# Altium schematic symbol library Mechanical.SchLib: 50 symbols
Pins are listed as number, name and electrical type; pins without a type are passive.

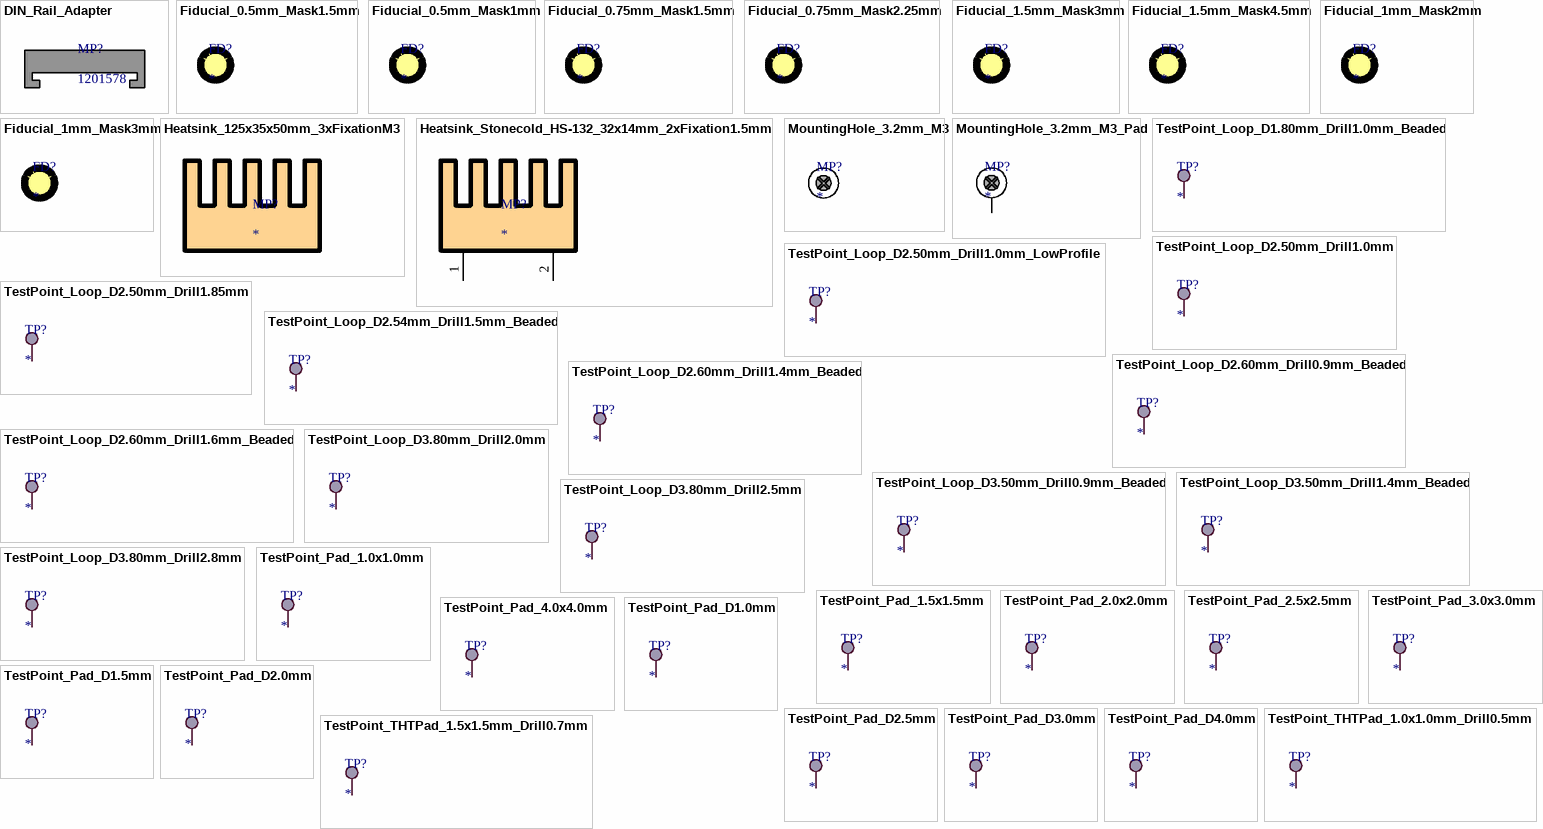
[diagram p0: symbols DIN_Rail_Adapter to TestPoint_THTPad_1.5x1.5mm_Drill0.7mm]

## DIN_Rail_Adapter
designator MP?, comment 1201578
Rail adapters, for M3 screws, length: 42.6 mm, width: 10 mm, height: 19 mm, color: gray; Manufacturer 1: Phoenix Contact; Category 1: Terminal Blocks; Supplier 1: Arrow Electronics; Supplier Part Number 1: 1201578; Manufacturer Part Number 1: 1201578; RoHS 1: Yes; Description 1: Rail adapters, for M3 screws, length: 42.6 mm, width: 10 mm, height: 19 mm, color: gray; Stock 1: 11; Pricing 1: 1=1.69280, 10=1.57760, 50=1.47590, 100=1.32930, 250=1.23700, 500=1.16160, 1000=1.08610 (USD); Material: Polyamide,PA; Color: Grey; Weight: 0.103705oz; Package Quantity: 10; Packaging: Bulk; Series: CLIPLINE; Length: 42.6mm; Width: 10mm; Height: 19mm; Lead Free: Lead Free; RoHS Compliant: Yes; ComponentLink1URL: https://datasheet.ciiva.com/15197/getdatasheetpartid-190175-15197205.pdf?src-supplier=Verical; ComponentLink1Description: https://datasheet.ciiva.com/15197/getdatasheetpartid-190175-15197205.pdf?src-supplier=Verical; ComponentLink2URL: https://datasheet.ciiva.com/15656/1201578-15656069.pdf?src-supplier=Onlinecomponents.com; ComponentLink2Description: https://datasheet.ciiva.com/15656/1201578-15656069.pdf?src-supplier=Onlinecomponents.com; ComponentLink3URL: https://datasheet.ciiva.com/6712/1201578-6712522.pdf?src-supplier=Digi-Key; ComponentLink3Description: https://datasheet.ciiva.com/6712/1201578-6712522.pdf?src-supplier=Digi-Key; ComponentLink4URL: https://datasheet.ciiva.com/29271/719651-da-01-de-schienenadapter-1201578-10-st-29271719.pdf?src-supplier=Conrad; ComponentLink4Description: https://datasheet.ciiva.com/29271/719651-da-01-de-schienenadapter-1201578-10-st-29271719.pdf?src-supplier=Conrad; ComponentLink5URL: https://datasheet.ciiva.com/18414/70170149-18414266.pdf?src-supplier=Allied+Electronics; ComponentLink5Description: https://datasheet.ciiva.com/18414/70170149-18414266.pdf?src-supplier=Allied+Electronics; Supplier 2: Digi-Key; Supplier Part Number 2: 277-2296-ND; Manufacturer 2: Phoenix Contact; Manufacturer Part Number 2: 1201578; RoHS 2: Yes; Description 2: Rail adapters, for M3 screws, length: 42.6 mm, width: 10 mm, height: 19 mm, color: gray; Category 2: Terminal Blocks; Stock 2: 1643; Pricing 2: 1=1.93000, 10=1.57300, 50=1.47000, 100=1.35240, 250=1.24952, 500=1.19070, 1000=1.11720, 2500=1.03951, 5000=1.02411 (USD); Supplier 3: Mouser; Supplier Part Number 3: 651-1201578; Manufacturer 3: Phoenix Contact; Manufacturer Part Number 3: 1201578; RoHS 3: Yes; Description 3: Rail adapters, for M3 screws, length: 42.6 mm, width: 10 mm, height: 19 mm, color: gray; Category 3: Terminal Blocks; Stock 3: 5794; Pricing 3: 1=1.69000, 10=1.65000, 25=1.60000, 50=1.54000, 100=1.41000, 250=1.30000, 500=1.24000, 1000=1.17000, 2500=1.11000, 10000=1.11000 (USD); Supplier 4: Allied Electronics; Supplier Part Number 4: 70170149; Manufacturer 4: Phoenix Contact; Manufacturer Part Number 4: 1201578; RoHS 4: Yes; Description 4: Rail adapters, for M3 screws, length: 42.6 mm, width: 10 mm, height: 19 mm, color: gray; Category 4: Terminal Blocks; Stock 4: 2127; Pricing 4: 1=1.93000, 10=1.58000, 50=1.47000 (USD)
footprint DINRailAdapter_3xM3_PhoenixContact_1201578 (DIN Rail adapters for M3 screws length: 42.6 mm, width: 10 mm, height: 19 mm, color: gray)

## Fiducial_0.5mm_Mask1.5mm
designator FD?  (graphical)
Circular Fiducial, 0.5mm bare copper, 1.5mm soldermask opening
footprint Fiducial_0.5mm_Mask1.5mm (Circular Fiducial, 0.5mm bare copper, 1.5mm soldermask opening)

## Fiducial_0.5mm_Mask1mm
designator FD?  (graphical)
Circular Fiducial, 0.5mm bare copper, 1mm soldermask opening (Level C)
footprint Fiducial_0.5mm_Mask1mm (Circular Fiducial, 0.5mm bare copper, 1mm soldermask opening (Level C))

## Fiducial_0.75mm_Mask1.5mm
designator FD?  (graphical)
Circular Fiducial, 0.75mm bare copper, 1.5mm soldermask opening (Level B)
footprint Fiducial_0.75mm_Mask1.5mm (Circular Fiducial, 0.75mm bare copper, 1.5mm soldermask opening (Level B))

## Fiducial_0.75mm_Mask2.25mm
designator FD?  (graphical)
Circular Fiducial, 0.75mm bare copper, 2.25mm soldermask opening
footprint Fiducial_0.75mm_Mask2.25mm (Circular Fiducial, 0.75mm bare copper, 2.25mm soldermask opening)

## Fiducial_1.5mm_Mask3mm
designator FD?  (graphical)
Circular Fiducial, 1.5mm bare copper, 3mm soldermask opening
footprint Fiducial_1.5mm_Mask3mm (Circular Fiducial, 1.5mm bare copper, 3mm soldermask opening)

## Fiducial_1.5mm_Mask4.5mm
designator FD?  (graphical)
Circular Fiducial, 1.5mm bare copper, 4.5mm soldermask opening
footprint Fiducial_1.5mm_Mask4.5mm (Circular Fiducial, 1.5mm bare copper, 4.5mm soldermask opening)

## Fiducial_1mm_Mask2mm
designator FD?  (graphical)
Circular Fiducial, 1mm bare copper, 2mm soldermask opening (Level A)
footprint Fiducial_1mm_Mask2mm (Circular Fiducial, 1mm bare copper, 2mm soldermask opening (Level A))

## Fiducial_1mm_Mask3mm
designator FD?  (graphical)
Circular Fiducial, 1mm bare copper, 3mm soldermask opening (recommended)
footprint Fiducial_1mm_Mask3mm (Circular Fiducial, 1mm bare copper, 3mm soldermask opening (recommended))

## Heatsink_125x35x50mm_3xFixationM3
designator MP?  (mechanical)
Heatsink, 125x35x50mm, 3 fixation holes 3.2mm
footprint Heatsink_125x35x50mm_3xFixationM3 (Heatsink, 125x35x50mm, 3 fixation holes 3.2mm)

## Heatsink_Stonecold_HS-132_32x14mm_2xFixation1.5mm
designator MP?  (mechanical)
Heatsink, StoneCold HS
footprint Heatsink_Stonecold_HS-132_32x14mm_2xFixation1.5mm (Heatsink, StoneCold HS)
pins: 1, 2

## MountingHole_3.2mm_M3
designator MP?  (mechanical)
Mounting Hole 3.2mm, M3
footprint MountingHole_3.2mm_M3 (Mounting Hole 3.2mm, no annular, M3)

## MountingHole_3.2mm_M3_Pad
designator MP?  (mechanical)
Mounting Hole 3.2mm, M3 with PAD
footprint MountingHole_3.2mm_M3_Pad (Mounting Hole 3.2mm, M3)
pins: 1

## TestPoint_Loop_D1.80mm_Drill1.0mm_Beaded
designator TP?  (no BOM)
wire loop with bead as test point, loop diameter 1.8mm, hole diameter 1.0mm
footprint TestPoint_Loop_D1.80mm_Drill1.0mm_Beaded (wire loop with bead as test point, loop diameter 1.8mm, hole diameter 1.0mm)
pins: 1 TP

## TestPoint_Loop_D2.50mm_Drill1.0mm
designator TP?  (no BOM)
wire loop as test point, loop diameter 2.5mm, hole diameter 1.0mm
footprint TestPoint_Loop_D2.50mm_Drill1.0mm (wire loop as test point, loop diameter 2.5mm, hole diameter 1.0mm)
pins: 1 TP

## TestPoint_Loop_D2.50mm_Drill1.0mm_LowProfile
designator TP?  (no BOM)
low profile wire loop as test point, loop diameter 2.5mm, hole diameter 1.0mm
footprint TestPoint_Loop_D2.50mm_Drill1.0mm_LowProfile (low profile wire loop as test point, loop diameter 2.5mm, hole diameter 1.0mm)
pins: 1 TP

## TestPoint_Loop_D2.50mm_Drill1.85mm
designator TP?  (no BOM)
wire loop as test point, loop diameter 2.5mm, hole diameter 1.85mm
footprint TestPoint_Loop_D2.50mm_Drill1.85mm (wire loop as test point, loop diameter 2.5mm, hole diameter 1.85mm)
pins: 1 TP

## TestPoint_Loop_D2.54mm_Drill1.5mm_Beaded
designator TP?  (no BOM)
wire loop with bead as test point, loop diameter2.548mm, hole diameter 1.5mm
footprint TestPoint_Loop_D2.54mm_Drill1.5mm_Beaded (wire loop with bead as test point, loop diameter2.548mm, hole diameter 1.5mm)
pins: 1 TP

## TestPoint_Loop_D2.60mm_Drill0.9mm_Beaded
designator TP?  (no BOM)
wire loop with bead as test point, loop diameter2.6mm, hole diameter 0.9mm
footprint TestPoint_Loop_D2.60mm_Drill0.9mm_Beaded (wire loop with bead as test point, loop diameter2.6mm, hole diameter 0.9mm)
pins: 1 TP

## TestPoint_Loop_D2.60mm_Drill1.4mm_Beaded
designator TP?  (no BOM)
wire loop with bead as test point, loop diameter2.6mm, hole diameter 1.4mm
footprint TestPoint_Loop_D2.60mm_Drill1.4mm_Beaded (wire loop with bead as test point, loop diameter2.6mm, hole diameter 1.4mm)
pins: 1 TP

## TestPoint_Loop_D2.60mm_Drill1.6mm_Beaded
designator TP?  (no BOM)
wire loop with bead as test point, loop diameter2.6mm, hole diameter 1.6mm
footprint TestPoint_Loop_D2.60mm_Drill1.6mm_Beaded (wire loop with bead as test point, loop diameter2.6mm, hole diameter 1.6mm)
pins: 1 TP

## TestPoint_Loop_D3.50mm_Drill0.9mm_Beaded
designator TP?  (no BOM)
wire loop with bead as test point, loop diameter2.6mm, hole diameter 0.9mm
footprint TestPoint_Loop_D3.50mm_Drill0.9mm_Beaded (wire loop with bead as test point, loop diameter2.6mm, hole diameter 0.9mm)
pins: 1 TP

## TestPoint_Loop_D3.50mm_Drill1.4mm_Beaded
designator TP?  (no BOM)
wire loop with bead as test point, loop diameter 3.5mm, hole diameter 1.4mm
footprint TestPoint_Loop_D3.50mm_Drill1.4mm_Beaded (wire loop with bead as test point, loop diameter 3.5mm, hole diameter 1.4mm)
pins: 1 TP

## TestPoint_Loop_D3.80mm_Drill2.0mm
designator TP?  (no BOM)
wire loop as test point, loop diameter 3.8mm, hole diameter 2.0mm
footprint TestPoint_Loop_D3.80mm_Drill2.0mm (wire loop as test point, loop diameter 3.8mm, hole diameter 2.0mm)
pins: 1 TP

## TestPoint_Loop_D3.80mm_Drill2.5mm
designator TP?  (no BOM)
wire loop as test point, loop diameter 3.8mm, hole diameter 2.5mm
footprint TestPoint_Loop_D3.80mm_Drill2.5mm (wire loop as test point, loop diameter 3.8mm, hole diameter 2.5mm)
pins: 1 TP

## TestPoint_Loop_D3.80mm_Drill2.8mm
designator TP?  (no BOM)
wire loop as test point, loop diameter 3.8mm, hole diameter 2.8mm
footprint TestPoint_Loop_D3.80mm_Drill2.8mm (wire loop as test point, loop diameter 3.8mm, hole diameter 2.8mm)
pins: 1 TP

## TestPoint_Pad_1.0x1.0mm
designator TP?  (no BOM)
SMD rectangular pad as test Point, square 1.0mm side length
footprint TestPoint_Pad_1.0x1.0mm (SMD rectangular pad as test Point, square 1.0mm side length)
pins: 1 TP

## TestPoint_Pad_1.5x1.5mm
designator TP?  (no BOM)
SMD rectangular pad as test Point, square 1.5mm side length
footprint TestPoint_Pad_1.5x1.5mm (SMD rectangular pad as test Point, square 1.5mm side length)
pins: 1 TP

## TestPoint_Pad_2.0x2.0mm
designator TP?  (no BOM)
SMD rectangular pad as test Point, square 2.0mm side length
footprint TestPoint_Pad_2.0x2.0mm (SMD rectangular pad as test Point, square 2.0mm side length)
pins: 1 TP

## TestPoint_Pad_2.5x2.5mm
designator TP?  (no BOM)
SMD rectangular pad as test Point, square 2.5mm side length
footprint TestPoint_Pad_2.5x2.5mm (SMD rectangular pad as test Point, square 2.5mm side length)
pins: 1 TP

## TestPoint_Pad_3.0x3.0mm
designator TP?  (no BOM)
SMD rectangular pad as test Point, square 3.0mm side length
footprint TestPoint_Pad_3.0x3.0mm (SMD rectangular pad as test Point, square 3.0mm side length)
pins: 1 TP

## TestPoint_Pad_4.0x4.0mm
designator TP?  (no BOM)
SMD rectangular pad as test Point, square 4.0mm side length
footprint TestPoint_Pad_4.0x4.0mm (SMD rectangular pad as test Point, square 4.0mm side length)
pins: 1 TP

## TestPoint_Pad_D1.0mm
designator TP?  (no BOM)
SMD pad as test Point, diameter 1.0mm
footprint TestPoint_Pad_D1.0mm (SMD pad as test Point, diameter 1.0mm)
pins: 1 TP

## TestPoint_Pad_D1.5mm
designator TP?  (no BOM)
SMD pad as test Point, diameter 1.5mm
footprint TestPoint_Pad_D1.5mm (SMD pad as test Point, diameter 1.5mm)
pins: 1 TP

## TestPoint_Pad_D2.0mm
designator TP?  (no BOM)
SMD pad as test Point, diameter 2.0mm
footprint TestPoint_Pad_D2.0mm (SMD pad as test Point, diameter 2.0mm)
pins: 1 TP

## TestPoint_Pad_D2.5mm
designator TP?  (no BOM)
SMD pad as test Point, diameter 2.5mm
footprint TestPoint_Pad_D2.5mm (SMD pad as test Point, diameter 2.5mm)
pins: 1 TP

## TestPoint_Pad_D3.0mm
designator TP?  (no BOM)
SMD pad as test Point, diameter 3.0mm
footprint TestPoint_Pad_D3.0mm (SMD pad as test Point, diameter 3.0mm)
pins: 1 TP

## TestPoint_Pad_D4.0mm
designator TP?  (no BOM)
SMD pad as test Point, diameter 4.0mm
footprint TestPoint_Pad_D4.0mm (SMD pad as test Point, diameter 4.0mm)
pins: 1 TP

## TestPoint_THTPad_1.0x1.0mm_Drill0.5mm
designator TP?  (no BOM)
THT rectangular pad as test Point, square 1.0mm side length, hole diameter 0.5mm
footprint TestPoint_THTPad_1.0x1.0mm_Drill0.5mm (THT rectangular pad as test Point, square 1.0mm side length, hole diameter 0.5mm)
pins: 1 TP

## TestPoint_THTPad_1.5x1.5mm_Drill0.7mm
designator TP?  (no BOM)
THT rectangular pad as test Point, square 1.5mm side length, hole diameter 0.7mm
footprint TestPoint_THTPad_1.5x1.5mm_Drill0.7mm (THT rectangular pad as test Point, square 1.5mm side length, hole diameter 0.7mm)
pins: 1 TP

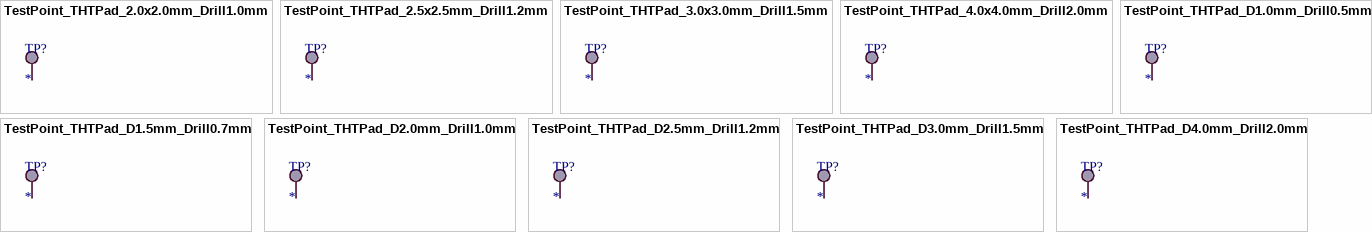
[diagram p1: symbols TestPoint_THTPad_2.0x2.0mm_Drill1.0mm to TestPoint_THTPad_D4.0mm_Drill2.0mm]

## TestPoint_THTPad_2.0x2.0mm_Drill1.0mm
designator TP?  (no BOM)
THT rectangular pad as test Point, square 2.0mm_Drill1.0mm  side length, hole diameter 1.0mm
footprint TestPoint_THTPad_2.0x2.0mm_Drill1.0mm (THT rectangular pad as test Point, square 2.0mm_Drill1.0mm  side length, hole diameter 1.0mm)
pins: 1 TP

## TestPoint_THTPad_2.5x2.5mm_Drill1.2mm
designator TP?  (no BOM)
THT rectangular pad as test Point, square 2.5mm side length, hole diameter 1.2mm
footprint TestPoint_THTPad_2.5x2.5mm_Drill1.2mm (THT rectangular pad as test Point, square 2.5mm side length, hole diameter 1.2mm)
pins: 1 TP

## TestPoint_THTPad_3.0x3.0mm_Drill1.5mm
designator TP?  (no BOM)
THT rectangular pad as test Point, square 3.0mm side length, hole diameter 1.5mm
footprint TestPoint_THTPad_3.0x3.0mm_Drill1.5mm (THT rectangular pad as test Point, square 3.0mm side length, hole diameter 1.5mm)
pins: 1 TP

## TestPoint_THTPad_4.0x4.0mm_Drill2.0mm
designator TP?  (no BOM)
THT rectangular pad as test Point, square 4.0mm  side length, hole diameter 2.0mm
footprint TestPoint_THTPad_4.0x4.0mm_Drill2.0mm (THT rectangular pad as test Point, square 4.0mm  side length, hole diameter 2.0mm)
pins: 1 TP

## TestPoint_THTPad_D1.0mm_Drill0.5mm
designator TP?  (no BOM)
THT pad as test Point, diameter 1.0mm, hole diameter 0.5mm
footprint TestPoint_THTPad_D1.0mm_Drill0.5mm (THT pad as test Point, diameter 1.0mm, hole diameter 0.5mm)
pins: 1 TP

## TestPoint_THTPad_D1.5mm_Drill0.7mm
designator TP?  (no BOM)
THT pad as test Point, diameter 1.5mm, hole diameter 0.7mm
footprint TestPoint_THTPad_D1.5mm_Drill0.7mm (THT pad as test Point, diameter 1.5mm, hole diameter 0.7mm)
pins: 1 TP

## TestPoint_THTPad_D2.0mm_Drill1.0mm
designator TP?  (no BOM)
THT pad as test Point, diameter 2.0mm, hole diameter 1.0mm
footprint TestPoint_THTPad_D2.0mm_Drill1.0mm (THT pad as test Point, diameter 2.0mm, hole diameter 1.0mm)
pins: 1 TP

## TestPoint_THTPad_D2.5mm_Drill1.2mm
designator TP?  (no BOM)
THT pad as test Point, diameter 2.5mm, hole diameter 1.2mm
footprint TestPoint_THTPad_D2.5mm_Drill1.2mm (THT pad as test Point, diameter 2.5mm, hole diameter 1.2mm)
pins: 1 TP

## TestPoint_THTPad_D3.0mm_Drill1.5mm
designator TP?  (no BOM)
THT pad as test Point, diameter 3.0mm, hole diameter 1.5mm
footprint TestPoint_THTPad_D3.0mm_Drill1.5mm (THT pad as test Point, diameter 3.0mm, hole diameter 1.5mm)
pins: 1 TP

## TestPoint_THTPad_D4.0mm_Drill2.0mm
designator TP?  (no BOM)
THT pad as test Point, diameter 4.0mm, hole diameter 2.0mm
footprint TestPoint_THTPad_D4.0mm_Drill2.0mm (THT pad as test Point, diameter 4.0mm, hole diameter 2.0mm)
pins: 1 TP